# EAGLE library part LCD_MODUL_162C (library 0_HTL_uC-MEGACARD)
Tuxgraphics LCD display 16x2 characters reflective, with background light Source: Display Ltd LCD Module 162C Series
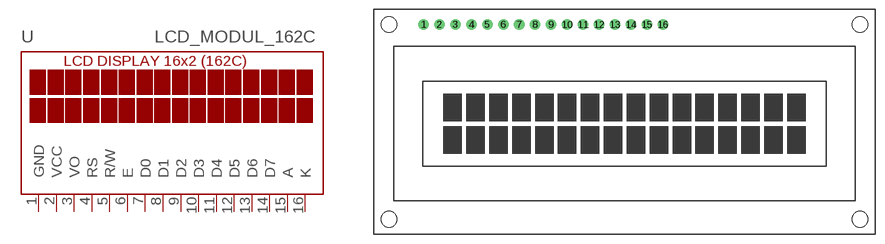
[diagram p17: symbol with the pads of LCD_MODUL_162C; footprint LCD_MODUL_162C]

Designator prefix -

## LCD_MODUL_162C  [LCD_MODUL_162C]
1  GND  pwr
2  VCC  pwr
3  VO  in
4  RS  in
5  R/W  in
6  E  in
7  D0  in
8  D1  in
9  D2  in
10  D3  in
11  D4  in
12  D5  in
13  D6  in
14  D7  in
15  A
16  K

## Footprint LCD_MODUL_162C (pad centres in mm)
drill 1 pad 1.676: 1 0.004,0.007; 2 2.544,0.007; 3 5.084,0.007; 4 7.624,0.007; 5 10.164,0.007; 6 12.704,0.007; 7 15.244,0.007; 8 17.784,0.007; 9 20.324,0.007; 10 22.864,0.007; 11 25.404,0.007; 12 27.944,0.007; 13 30.484,0.007; 14 33.024,0.007; 15 35.564,0.007; 16 38.104,0.007
hole 2.5 at -5.496,-30.993
hole 2.5 at 69.504,-30.993
hole 2.5 at -5.496,0.007
hole 2.5 at 69.504,0.007